# Altium footprint library PcbLib1.PcbLib: 2 footprints
Each footprint in its own frame and in the unit in brackets; x right, y up, seen from the top. Pads: shape width x height; smd on the part's side, far side on the other; paste and mask are expansions set on the pad; w line width, h text height; cw(c..) or ccw(c..) is an arc to the next point about the centre after c.
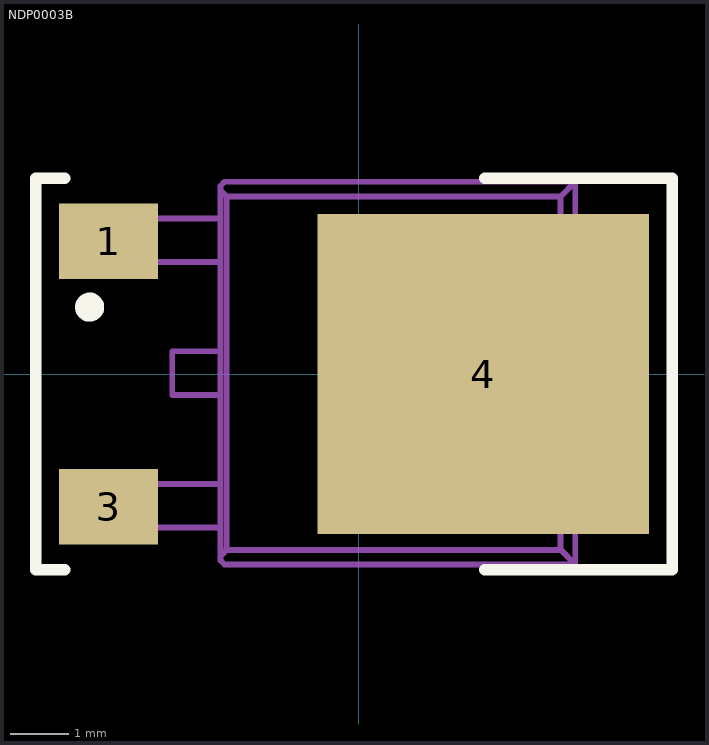
[diagram p0: the footprints below, top view; thin cyan lines are the x and y axes]

## NDP0003B [mm]
pads (3):
  rect 1.7x1.3 smd paste+0 mask+0.051: 1(-4.3,2.285) 3(-4.3,-2.285)
  rect 5.7x5.5 smd paste+0 mask+0.051: 4(2.14,0)
Top Overlay:
  circle w0.25: c-4.625,1.15 r0.125
  lines w0.2: -5.05,-3.365 -5.55,-3.365 -5.55,3.365 -5.05,3.365 ; 2.17,-3.365 5.39,-3.365 5.39,3.365 2.17,3.365
Mechanical 13:
  lines w0.1: -2.376,-0.36 -3.206,-0.36 -3.206,0.39 -2.376,0.39 ; -2.376,1.925 -3.633,1.925 -4.033,1.925 ; -2.376,2.675 -3.633,2.675 -4.033,2.675 ; -4.775,-2.64 -4.233,-2.64 ; -4.775,-2.64 -4.775,-1.89 ; -4.775,-2.64 -4.233,-2.64 ; -4.775,-2.64 -4.775,-1.89 ; -4.775,-2.64 -4.233,-2.64 ; -4.775,-2.64 -4.775,-1.89 ; -4.775,-1.89 -4.233,-1.89 ; -4.775,-1.89 -4.233,-1.89 ; -4.775,-1.89 -4.233,-1.89 ; -4.233,-2.64 -4.033,-2.64 ; -4.233,-2.64 -4.033,-2.64 ; -4.233,-2.64 -4.033,-2.64 ; -4.233,-1.89 -4.033,-1.89 ; -4.233,-1.89 -4.033,-1.89 ; -4.233,-1.89 -4.033,-1.89 ; -4.033,-2.64 -4.033,-1.89 ; -4.033,-2.64 -3.633,-2.64 ; -4.033,-2.64 -4.033,-1.89 ; -4.033,-2.64 -3.633,-2.64 ; -4.033,-2.64 -4.033,-1.89 ; -4.033,-2.64 -3.633,-2.64 ; -4.033,-1.89 -3.633,-1.89 ; -4.033,-1.89 -3.633,-1.89 ; -4.033,-1.89 -3.633,-1.89 ; -4.033,1.925 -4.233,1.925 -4.775,1.925 -4.775,2.675 -4.233,2.675 -4.033,2.675 ; -4.033,1.925 -4.033,2.675 ; -3.633,-2.64 -2.376,-2.64 ; -3.633,-2.64 -2.376,-2.64 ; -3.633,-2.64 -2.376,-2.64 ; -3.633,-1.89 -2.376,-1.89 ; -3.633,-1.89 -2.376,-1.89 ; -3.633,-1.89 -2.376,-1.89 ; -2.376,-3.132 -2.267,-3.023 ; -2.376,-3.132 -2.376,-2.64 ; -2.376,-3.132 -2.376,-3.204 -2.305,-3.275 3.724,-3.275 ; -2.376,-2.64 -2.376,-1.89 ; -2.376,-2.64 -2.376,-1.89 ; -2.376,-2.64 -2.376,-1.89 ; -2.376,-1.89 -2.376,3.162 ; -2.376,3.162 -2.376,3.234 -2.305,3.305 3.724,3.305 ; -2.376,3.162 -2.267,3.053 ; -2.267,-3.023 -2.267,3.053 ; -2.267,-3.023 3.472,-3.023 ; -2.267,3.053 3.472,3.053 ; 3.472,-3.023 3.472,3.053 ; 3.472,-3.023 3.724,-3.275 ; 3.472,3.053 3.724,3.305 ; 3.724,-3.275 3.724,-2.665 4.924,-2.665 4.924,-1.985 4.432,-1.985 4.432,2.015 4.924,2.015 4.924,2.695 3.724,2.695 3.724,3.305 ; 3.724,-1.233 ccw(c3.621,-1.001) 3.875,-1.001 3.875,1.031 ccw(c3.621,1.031) 3.724,1.263 3.724,-1.233
3D body "LM1117DT-5.0_NOPB.step": height 2.55, standoff -0.17, extent -4.828,-3.27 5.082,3.27

## PCBComponent_1 [mm]